# Altium footprint library MODULE.PCBLIB: 102 footprints (part 3 of 7)
Each footprint in its own frame and in the unit in brackets; x right, y up, seen from the top. Pads: shape width x height; smd on the part's side, far side on the other; paste and mask are expansions set on the pad; w line width, h text height; cw(c..) or ccw(c..) is an arc to the next point about the centre after c.
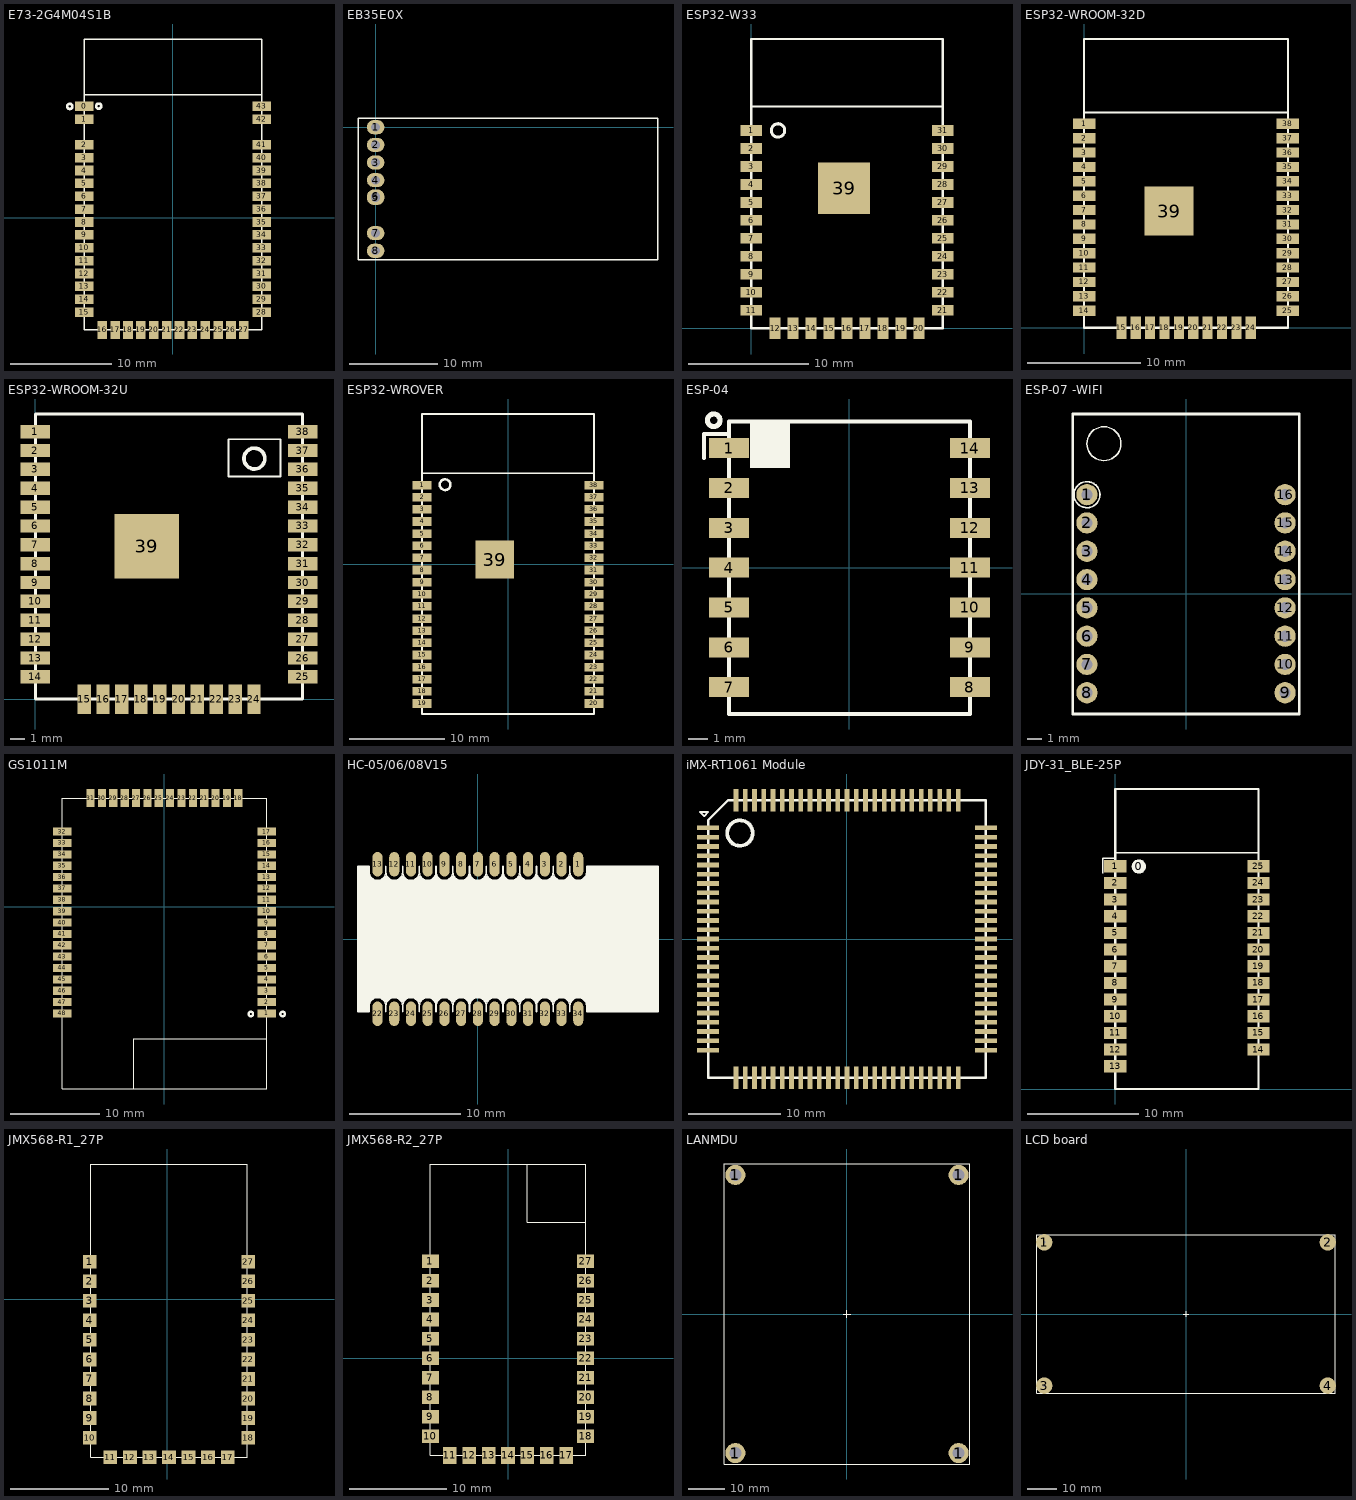
[diagram p2: the footprints below, top view; thin cyan lines are the x and y axes]

## E73-2G4M04S1B [mm] "E73-2G4M04S1B"
pads (44):
  rect 1.8x0.95 smd mask+0.102: 0(-8.75,11.02) 1(-8.75,9.75) 2(-8.75,7.21) 3(-8.75,5.94) 4(-8.75,4.67) 5(-8.75,3.4) 6(-8.75,2.13) 7(-8.75,0.86) 8(-8.75,-0.41) 9(-8.75,-1.68) 10(-8.75,-2.95) 11(-8.75,-4.22) 12(-8.75,-5.49) 13(-8.75,-6.76) 14(-8.75,-8.03) 15(-8.75,-9.3) 28(8.75,-9.3) 29(8.75,-8.03) 30(8.75,-6.76) 31(8.75,-5.49) 32(8.75,-4.22) 33(8.75,-2.95) 34(8.75,-1.68) 35(8.75,-0.41) 36(8.75,0.86) 37(8.75,2.13) 38(8.75,3.4) 39(8.75,4.67) 40(8.75,5.94) 41(8.75,7.21) 42(8.75,9.75) 43(8.75,11.02)
  rect 0.95x1.8 smd mask+0.102: 16(-6.98,-11.05) 17(-5.71,-11.05) 18(-4.44,-11.05) 19(-3.17,-11.05) 20(-1.9,-11.05) 21(-0.63,-11.05) 22(0.64,-11.05) 23(1.91,-11.05) 24(3.18,-11.05) 25(4.45,-11.05) 26(5.72,-11.05) 27(6.99,-11.05)
TopOverlay:
  circle w0.254: c-10.179,11 r0.254
  circle w0.254: c-7.329,11.025 r0.254
  lines w0.127: -8.75,12.125 8.75,12.125 ; -8.75,-11.05 -8.75,17.65 8.75,17.65 8.75,-11.05 -8.75,-11.05

## EB35E0X [mm]
pads (8):
  oval 2x1.6 hole 1 mask+0.102: 1(0,0) 2(0,-2) 3(0,-4) 4(0,-6) 5(0,-8) 6(0,-7.85) 7(0,-12) 8(0,-14)
TopOverlay:
  lines w0.152: -2,-15 -2,1 32,1 32,-15 -2,-15

## ESP32-W33 [mm] "ESP32-W33"
pads (32):
  rect 1.8x0.9 smd mask+0.102: 1(0,16.5) 2(0,15) 3(0,13.5) 4(0,12) 5(0,10.5) 6(0,9) 7(0,7.5) 8(0,6) 9(0,4.5) 10(0,3) 11(0,1.5) 21(16,1.5) 22(16,3) 23(16,4.5) 24(16,6) 25(16,7.5) 26(16,9) 27(16,10.5) 28(16,12) 29(16,13.5) 30(16,15) 31(16,16.5)
  rect 0.9x1.8 smd mask+0.102: 12(2,0) 13(3.5,0) 14(5,0) 15(6.5,0) 16(8,0) 17(9.5,0) 18(11,0) 19(12.5,0) 20(14,0)
  rect 4.32x4.32 smd mask+0.102: 39(7.75,11.68)
TopOverlay:
  circle w0.254: c2.241,16.5 r0.559
  lines w0.2: 0,18.5 16,18.5 ; 0,0 16,0 16,24.13 0,24.13 0,0

## ESP32-WROOM-32D [mm] "ESP32-WROOM-32D"
pads (39):
  rect 2x0.9 smd mask+0.102: 1(0,18.01) 2(0,16.74) 3(0,15.47) 4(0,14.2) 5(0,12.93) 6(0,11.66) 7(0,10.39) 8(0,9.12) 9(0,7.85) 10(0,6.58) 11(0,5.31) 12(0,4.04) 13(0,2.77) 14(0,1.5) 25(18,1.5) 26(18,2.77) 27(18,4.04) 28(18,5.31) 29(18,6.58) 30(18,7.85) 31(18,9.12) 32(18,10.39) 33(18,11.66) 34(18,12.93) 35(18,14.2) 36(18,15.47) 37(18,16.74) 38(18,18.01)
  rect 0.9x2 smd mask+0.102: 15(3.29,0) 16(4.56,0) 17(5.83,0) 18(7.1,0) 19(8.37,0) 20(9.64,0) 21(10.91,0) 22(12.18,0) 23(13.45,0) 24(14.72,0)
  rect 4.32x4.32 smd mask+0.102: 39(7.5,10.3)
TopOverlay:
  lines w0.2: 0,19 18,19 ; 0,0 18,0 18,25.5 0,25.5 0,0

## ESP32-WROOM-32U [mm] "ESP32-WROOM-32U"
pads (39):
  rect 2x0.9 smd mask+0.102: 1(0,18.01) 2(0,16.74) 3(0,15.47) 4(0,14.2) 5(0,12.93) 6(0,11.66) 7(0,10.39) 8(0,9.12) 9(0,7.85) 10(0,6.58) 11(0,5.31) 12(0,4.04) 13(0,2.77) 14(0,1.5) 25(18,1.5) 26(18,2.77) 27(18,4.04) 28(18,5.31) 29(18,6.58) 30(18,7.85) 31(18,9.12) 32(18,10.39) 33(18,11.66) 34(18,12.93) 35(18,14.2) 36(18,15.47) 37(18,16.74) 38(18,18.01)
  rect 0.9x2 smd mask+0.102: 15(3.29,0) 16(4.56,0) 17(5.83,0) 18(7.1,0) 19(8.37,0) 20(9.64,0) 21(10.91,0) 22(12.18,0) 23(13.45,0) 24(14.72,0)
  rect 4.32x4.32 smd mask+0.102: 39(7.5,10.3)
TopOverlay:
  circle w0.254: c14.75,16.2 r0.7
  lines w0.127: 13,15 13,17.5 16.5,17.5 16.5,15 13,15
  lines w0.2: 0,0 18,0 18,19.2 0,19.2 0,0

## ESP32-WROVER [mm] "ESP32-WROVER"
pads (39):
  rect 2x0.9 smd mask+0.102: 1(-9,8.26) 2(-9,6.99) 3(-9,5.72) 4(-9,4.45) 5(-9,3.18) 6(-9,1.91) 7(-9,0.64) 8(-9,-0.63) 9(-9,-1.9) 10(-9,-3.17) 11(-9,-4.44) 12(-9,-5.71) 13(-9,-6.98) 14(-9,-8.25) 15(-9,-9.52) 16(-9,-10.79) 17(-9,-12.06) 18(-9,-13.33) 19(-9,-14.6) 20(9,-14.6) 21(9,-13.33) 22(9,-12.06) 23(9,-10.79) 24(9,-9.52) 25(9,-8.25) 26(9,-6.98) 27(9,-5.71) 28(9,-4.44) 29(9,-3.17) 30(9,-1.9) 31(9,-0.63) 32(9,0.64) 33(9,1.91) 34(9,3.18) 35(9,4.45) 36(9,5.72) 37(9,6.99) 38(9,8.26)
  rect 4x4 smd mask+0.102: 39(-1.38,0.47)
TopOverlay:
  circle w0.254: c-6.584,8.3 r0.559
  lines w0.2: -9,9.5 9,9.5 ; -9,-15.7 -9,15.7 9,15.7 9,-15.7 -9,-15.7

## ESP-04 [mm]
pads (14):
  rect 2x1 smd mask+0.102: 1(-6.05,6) 2(-6.05,4) 3(-6.05,2) 4(-6.05,0) 5(-6.05,-2) 6(-6.05,-4) 7(-6.05,-6) 8(6.05,-6) 9(6.05,-4) 10(6.05,-2) 11(6.05,0) 12(6.05,2) 13(6.05,4) 14(6.05,6)
TopOverlay:
  circle w0.254: c-6.816,7.4 r0.316
  rectangle: -5,5 -3,7.35
  lines w0.2: -7.3,5.5 -7.3,6.7 -6.05,6.7 ; -6.05,-7.35 6.05,-7.35 6.05,7.35 -6.05,7.35 -6.05,-7.35

## ESP-07 -WIFI [mm] "ESP-07 -WIFI"
pads (16):
  round 1.5 hole 0.8 mask+0.102: 1(-7,7) 2(-7,5) 3(-7,3) 4(-7,1) 5(-7,-1) 6(-7,-3) 7(-7,-5) 8(-7,-7) 9(7,-7) 10(7,-5) 11(7,-3) 12(7,-1) 13(7,1) 14(7,3) 15(7,5) 16(7,7)
TopOverlay:
  circle w0.127: c-7,7 r0.92
  circle w0.1: c-5.8,10.6 r1.2
  lines w0.2: -8,-8.5 8,-8.5 8,12.7 -8,12.7 -8,-8.5

## GS1011M [mil]
pads (48):
  rect 80x36 smd mask+4: 1(450,-470) 2(450,-420) 3(450,-370) 4(450,-320) 5(450,-270) 6(450,-220) 7(450,-170) 8(450,-120) 9(450,-70) 10(450,-20) 11(450,30) 12(450,80) 13(450,130) 14(450,180) 15(450,230) 16(450,280) 17(450,330) 32(-450,330) 33(-450,280) 34(-450,230) 35(-450,180) 36(-450,130) 37(-450,80) 38(-450,30) 39(-450,-20) 40(-450,-70) 41(-450,-120) 42(-450,-170) 43(-450,-220) 44(-450,-270) 45(-450,-320) 46(-450,-370) 47(-450,-420) 48(-450,-470)
  rect 36x80 smd mask+4: 18(325,477.5) 19(275,477.5) 20(225,477.5) 21(175,477.5) 22(125,477.5) 23(75,477.5) 24(25,477.5) 25(-25,477.5) 26(-75,477.5) 27(-125,477.5) 28(-175,477.5) 29(-225,477.5) 30(-275,477.5) 31(-325,477.5)
TopOverlay:
  circle w10: c380,-472.5 r10
  circle w10: c520,-472.5 r10
  lines w5: -136,-802.5 -136,-582.5 450,-582.5 ; -450,-802.5 450,-802.5 450,477.5 -450,477.5 -450,-802.5

## HC-05/06/08V15 [mm]
pads (26):
  oval 0.9x2.2 smd: 1(9,6.7) 2(7.5,6.7) 3(6,6.7) 4(4.5,6.7) 5(3,6.7) 6(1.5,6.7) 7(0,6.7) 8(-1.5,6.7) 9(-3,6.7) 10(-4.5,6.7) 11(-6,6.7) 12(-7.5,6.7) 13(-9,6.7) 22(-9,-6.7) 23(-7.5,-6.7) 24(-6,-6.7) 25(-4.5,-6.7) 26(-3,-6.7) 27(-1.5,-6.7) 28(0,-6.7) 29(1.5,-6.7) 30(3,-6.7) 31(4.5,-6.7) 32(6,-6.7) 33(7.5,-6.7) 34(9,-6.7)
TopOverlay:
  rectangle: -8.6,5.275 -7.9,5.425
  rectangle: -8.41,5.4 -8.09,5.66
  rectangle: -7.1,5.275 -6.4,5.425
  rectangle: -6.91,5.4 -6.59,5.66
  rectangle: -5.6,5.275 -4.9,5.425
  rectangle: -5.41,5.4 -5.09,5.66
  rectangle: -4.1,5.275 -3.4,5.425
  rectangle: -3.91,5.4 -3.59,5.66
  rectangle: -2.6,5.275 -1.9,5.425
  rectangle: -2.41,5.4 -2.09,5.66
  rectangle: -1.1,5.275 -0.4,5.425
  rectangle: -0.91,5.4 -0.59,5.66
  rectangle: 0.4,5.275 1.1,5.425
  rectangle: 0.59,5.4 0.91,5.66
  rectangle: 1.9,5.275 2.6,5.425
  rectangle: 2.09,5.4 2.41,5.66
  rectangle: 3.4,5.275 4.1,5.425
  rectangle: 3.59,5.4 3.91,5.66
  rectangle: 4.9,5.275 5.6,5.425
  rectangle: 5.09,5.4 5.41,5.66
  rectangle: 6.4,5.275 7.1,5.425
  rectangle: 6.59,5.4 6.91,5.66
  rectangle: 7.9,5.275 8.6,5.425
  rectangle: 8.09,5.4 8.41,5.66
  rectangle: 9.4,5.275 10.1,5.425
  rectangle: 9.59,5.4 9.91,5.66
  rectangle: -8.6,-5.425 -7.9,-5.275
  rectangle: -8.41,-5.66 -8.09,-5.4
  rectangle: -7.1,-5.425 -6.4,-5.275
  rectangle: -6.91,-5.66 -6.59,-5.4
  rectangle: -5.6,-5.425 -4.9,-5.275
  rectangle: -5.41,-5.66 -5.09,-5.4
  rectangle: -4.1,-5.425 -3.4,-5.275
  rectangle: -3.91,-5.66 -3.59,-5.4
  rectangle: -2.6,-5.425 -1.9,-5.275
  rectangle: -2.41,-5.66 -2.09,-5.4
  rectangle: -1.1,-5.425 -0.4,-5.275
  rectangle: -0.91,-5.66 -0.59,-5.4
  rectangle: 0.4,-5.425 1.1,-5.275
  rectangle: 0.59,-5.66 0.91,-5.4
  rectangle: 1.9,-5.425 2.6,-5.275
  rectangle: 2.09,-5.66 2.41,-5.4
  rectangle: 3.4,-5.425 4.1,-5.275
  rectangle: 3.59,-5.66 3.91,-5.4
  rectangle: 4.9,-5.425 5.6,-5.275
  rectangle: 5.09,-5.66 5.41,-5.4
  rectangle: 6.4,-5.425 7.1,-5.275
  rectangle: 6.59,-5.66 6.91,-5.4
  rectangle: 7.9,-5.425 8.6,-5.275
  rectangle: 8.09,-5.66 8.41,-5.4
  rectangle: 9.4,-5.425 10.1,-5.275
  rectangle: 9.59,-5.66 9.91,-5.4
  rectangle: -10.75,-6.5 -9.75,6.5
  rectangle: 9.75,-6.5 16.15,6.5
  rectangle: -9.75,-5.3 9.75,5.3
  rectangle: -9.75,5.3 -9.425,5.475
  rectangle: -9.75,5.475 -9.6,5.675
  rectangle: -9.75,-5.475 -9.425,-5.3
  rectangle: -9.75,-5.675 -9.6,-5.475
  lines w0.152: -8.25,-5.85 -8.25,-6.5 -8.25,-6 ; 9.75,-6 ccw(c9,-6) 8.25,-6 ccw(c7.5,-6) 6.75,-6 ccw(c6,-6) 5.25,-6 ccw(c4.5,-6) 3.75,-6 ccw(c3,-6) 2.25,-6 ccw(c1.5,-6) 0.75,-6 ccw(c0,-6) -0.75,-6 ccw(c-1.5,-6) -2.25,-6 ccw(c-3,-6) -3.75,-6 ccw(c-4.5,-6) -5.25,-6 ccw(c-6,-6) -6.75,-6 ccw(c-7.5,-6) -8.25,-6 ; 9.75,-5.85 9.75,-6.5 16.15,-6.5 16.15,6.5 9.75,6.5 9.75,6 cw(c9,6) 8.25,6 ; -8.25,-6 ccw(c-9,-6) -9.75,-6 -9.75,-6.5 -10.75,-6.5 -10.75,6.5 -9.75,6.5 -9.75,6 ccw(c-9,6) -8.25,6 ; -8.25,6 ccw(c-7.5,6) -6.75,6 ; -8.25,6 -8.25,6.5 -8.25,6 ; -6.75,6 ccw(c-6,6) -5.25,6 ; -6.75,6 -6.75,6.5 -6.75,6 ; -5.25,6 ccw(c-4.5,6) -3.75,6 ; -5.25,6 -5.25,6.5 -5.25,6 ; -3.75,6 ccw(c-3,6) -2.25,6 ; -3.75,6 -3.75,6.5 -3.75,6 ; -2.25,6 ccw(c-1.5,6) -0.75,6 ; -2.25,6 -2.25,6.5 -2.25,6 ; -0.75,6 ccw(c0,6) 0.75,6 ; -0.75,6 -0.75,6.5 -0.75,6 ; 0.75,6 ccw(c1.5,6) 2.25,6 ; 0.75,6 0.75,6.5 0.75,6 ; 2.25,6 ccw(c3,6) 3.75,6 ; 2.25,6 2.25,6.5 2.25,6 ; 3.75,6 ccw(c4.5,6) 5.25,6 ; 3.75,6 3.75,6.5 3.75,6 ; 5.25,6 ccw(c6,6) 6.75,6 ; 5.25,6 5.25,6.5 5.25,6 ; 6.75,6 ccw(c7.5,6) 8.25,6 ; 6.75,6 6.75,6.5 6.75,6 ; 8.25,6 8.25,6.5 8.25,6 ; -6.75,-6.5 -6.75,-5.85 -6.75,-6.5 ; -5.25,-6.5 -5.25,-5.85 -5.25,-6.5 ; -3.75,-6.5 -3.75,-5.85 -3.75,-6.5 ; -2.25,-6.5 -2.25,-5.85 -2.25,-6.5 ; -0.75,-6.5 -0.75,-5.85 -0.75,-6.5 ; 0.75,-6.5 0.75,-5.85 0.75,-6.5 ; 2.25,-6.5 2.25,-5.85 2.25,-6.5 ; 3.75,-6.5 3.75,-5.85 3.75,-6.5 ; 5.25,-6.5 5.25,-5.85 5.25,-6.5 ; 6.75,-6.5 6.75,-5.85 6.75,-6.5 ; 8.25,-6.5 8.25,-5.85 8.25,-6.5

## iMX-RT1061 Module [mm] "iMX-RT1061 Module"
pads (100):
  rect 2.4x0.5 smd: 1(-15.005,12) 2(-15.005,11) 3(-15.005,10) 4(-15.005,9) 5(-15.005,8) 6(-15.005,7) 7(-15.005,6) 8(-15.005,5) 9(-15.005,4) 10(-15.005,3) 11(-15.005,2) 12(-15.005,1) 13(-15.005,0) 14(-15.005,-1) 15(-15.005,-2) 16(-15.005,-3) 17(-15.005,-4) 18(-15.005,-5) 19(-15.005,-6) 20(-15.005,-7) 21(-15.005,-8) 22(-15.005,-9) 23(-15.005,-10) 24(-15.005,-11) 25(-15.005,-12) 51(15.005,-12) 52(15.005,-11) 53(15.005,-10) 54(15.005,-9) 55(15.005,-8) 56(15.005,-7) 57(15.005,-6) 58(15.005,-5) 59(15.005,-4) 60(15.005,-3) 61(15.005,-2) 62(15.005,-1) 63(15.005,0) 64(15.005,1) 65(15.005,2) 66(15.005,3) 67(15.005,4) 68(15.005,5) 69(15.005,6) 70(15.005,7) 71(15.005,8) 72(15.005,9) 73(15.005,10) 74(15.005,11) 75(15.005,12)
  rect 0.5x2.4 smd: 26(-11.995,-15) 27(-10.995,-15) 28(-9.995,-15) 29(-8.995,-15) 30(-7.995,-15) 31(-6.995,-15) 32(-5.995,-15) 33(-4.995,-15) 34(-3.995,-15) 35(-2.995,-15) 36(-1.995,-15) 37(-0.995,-15) 38(0.005,-15) 39(1.005,-15) 40(2.005,-15) 41(3.005,-15) 42(4.005,-15) 43(5.005,-15) 44(6.005,-15) 45(7.005,-15) 46(8.005,-15) 47(9.005,-15) 48(10.005,-15) 49(11.005,-15) 50(12.005,-15) 76(12.005,15) 77(11.005,15) 78(10.005,15) 79(9.005,15) 80(8.005,15) 81(7.005,15) 82(6.005,15) 83(5.005,15) 84(4.005,15) 85(3.005,15) 86(2.005,15) 87(1.005,15) 88(0.005,15) 89(-0.995,15) 90(-1.995,15) 91(-2.995,15) 92(-3.995,15) 93(-4.995,15) 94(-5.995,15) 95(-6.995,15) 96(-7.995,15) 97(-8.995,15) 98(-9.995,15) 99(-10.995,15) 100(-11.995,15)
TopOverlay:
  circle w0.4: c-11.566,11.444 r1.374
  lines w0.2: -15.884,13.73 -15.439,13.286 -14.995,13.73 -15.884,13.73
  lines w0.254: 15.005,14.975 15.005,-15 -14.995,-15 -14.995,12.841 -12.836,15 15.005,15

## JDY-31_BLE-25P [mm] "JDY-31_BLE-25P"
pads (26):
  round 1.3 on Top Overlay: 0(2.125,20.025)
  rect 2x1.1 smd mask+0.102: 1(0,20.045) 2(0,18.545) 3(0,17.045) 4(0,15.545) 5(0,14.045) 6(0,12.545) 7(0,11.045) 8(0,9.545) 9(0,8.045) 10(0,6.545) 11(0,5.045) 12(0,3.545) 13(0,2.045) 14(12.878,3.544) 15(12.878,5.044) 16(12.878,6.544) 17(12.878,8.044) 18(12.878,9.544) 19(12.878,11.044) 20(12.878,12.544) 21(12.878,14.044) 22(12.878,15.544) 23(12.878,17.044) 24(12.878,18.544) 25(12.878,20.044)
TopOverlay:
  lines w0.127: -1.15,19.425 -1.15,20.775 0,20.775 ; 0,21.275 12.817,21.275 ccw(c12.817,21.36) 12.878,21.3
  lines w0.2: 0,0 12.878,0 12.878,27 0,27 0,0

## JMX568-R1_27P [mm] "JMX568-R1_27P"
pads (27):
  rect 1.4x1.4 smd mask+0.102: 1(-7.925,3.825) 2(-7.925,1.825) 3(-7.925,-0.175) 4(-7.925,-2.175) 5(-7.925,-4.175) 6(-7.925,-6.175) 7(-7.925,-8.175) 8(-7.925,-10.175) 9(-7.925,-12.175) 10(-7.925,-14.175) 11(-5.825,-16.175) 12(-3.825,-16.175) 13(-1.825,-16.175) 14(0.175,-16.175) 15(2.175,-16.175) 16(4.175,-16.175) 17(6.175,-16.175) 18(8.275,-14.175) 19(8.275,-12.175) 20(8.275,-10.175) 21(8.275,-8.175) 22(8.275,-6.175) 23(8.275,-4.175) 24(8.275,-2.175) 25(8.275,-0.175) 26(8.275,1.825) 27(8.275,3.825)
TopOverlay:
  lines w0.127: -7.825,-16.175 8.175,-16.175 8.175,13.825 -7.825,13.825 -7.825,-16.175

## JMX568-R2_27P [mm] "JMX568-R2_27P"
pads (27):
  rect 1.75x1.4 smd mask+0.102: 1(-8,10) 2(-8,8) 3(-8,6) 4(-8,4) 5(-8,2) 6(-8,0) 7(-8,-2) 8(-8,-4) 9(-8,-6) 10(-8,-8) 18(8,-8) 19(8,-6) 20(8,-4) 21(8,-2) 22(8,0) 23(8,2) 24(8,4) 25(8,6) 26(8,8) 27(8,10)
  rect 1.4x1.75 smd mask+0.102: 11(-6,-10) 12(-4,-10) 13(-2,-10) 14(0,-10) 15(2,-10) 16(4,-10) 17(6,-10)
TopOverlay:
  lines w0.127: 2,20 2,14 8,14 ; -8,-10 -8,20 8,20 8,-10 -8,-10

## LANMDU [mm]
pads (4):
  round 5.5 hole 3.2 mask+0.102: 1(-30.5,-38) 1(-30.5,38) 1(30.5,-38) 1(30.5,38)
TopOverlay:
  lines w0.127: -1,0 1,0 ; 0,-1 0,1 ; -33.5,-41 -33.5,41 33.5,41 33.5,-41 -33.5,-41

## LCD board [mm] "LCD board"
pads (4):
  round 5.5 hole 0.9 mask+0.102: 1(-47.5,24) 2(47.5,24) 3(-47.5,-24) 4(47.5,-24)
TopOverlay:
  lines w0.127: -1,0 1,0 ; 0,-1 0,1 ; -50,-26.5 50,-26.5 50,26.5 -50,26.5 -50,-26.5